# Altium footprint library mypcb.PcbLib: 46 footprints (part 1 of 3)
Each footprint in its own frame and in the unit in brackets; x right, y up, seen from the top. Pads: shape width x height; smd on the part's side, far side on the other; paste and mask are expansions set on the pad; w line width, h text height; cw(c..) or ccw(c..) is an arc to the next point about the centre after c.
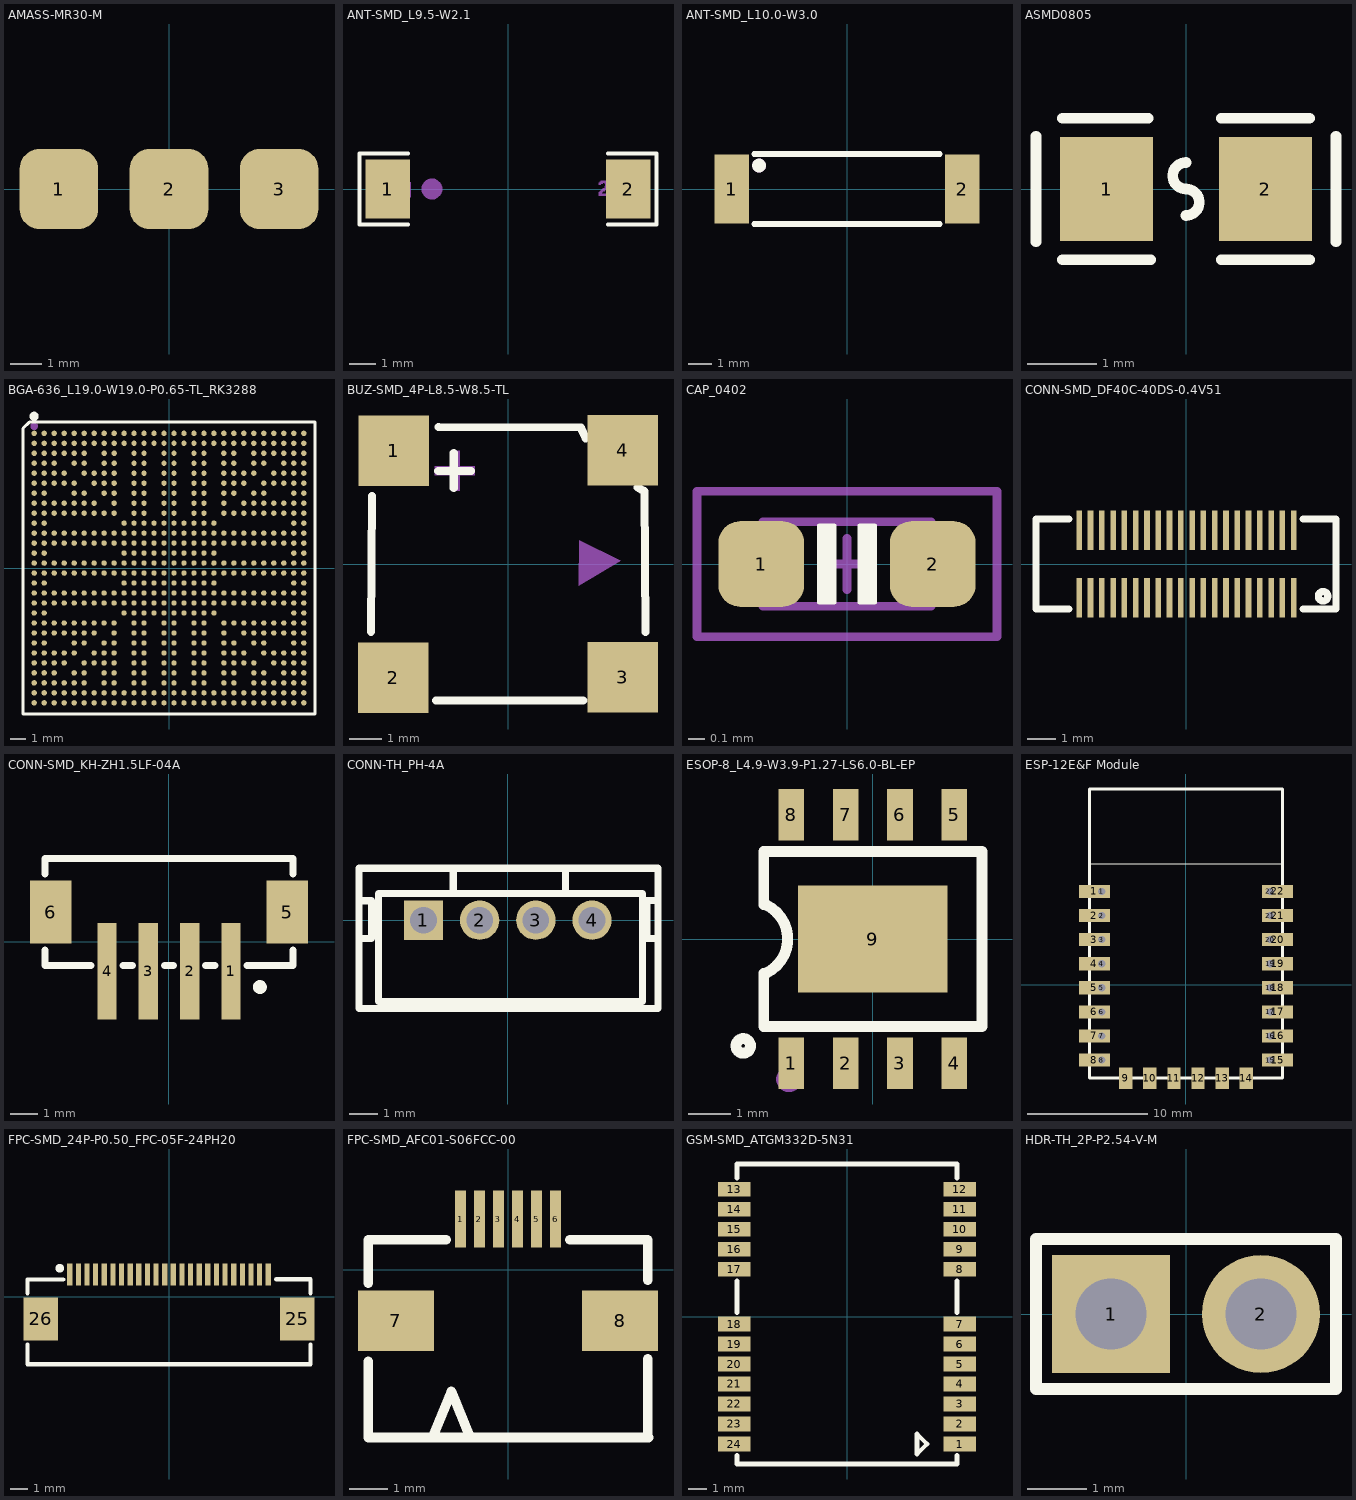
[diagram p0: the footprints below, top view; thin cyan lines are the x and y axes]

## AMASS-MR30-M [mm]
pads (3):
  rrect50% 2.5x2.54 smd: 1(-3.5,0) 2(0,0) 3(3.5,0)
3D body "User Library-Amass MR30-FB.step": height 2.6, standoff -2.6, extent -6.1,-11.842 6.1,0.658

## ANT-SMD_L9.5-W2.1 [mm] "陶瓷天线pcb"
pads (2):
  rect 1.71x2.268 smd: 1(-4.63,0) 2(4.63,0)
Top Overlay:
  lines w0.152: -3.851,-1.363 -5.714,-1.363 -5.714,1.363 -3.851,1.363 ; 3.851,-1.363 5.714,-1.363 5.714,1.363 3.851,1.363
Top Paste:
  region: -3.775,-1.034 -3.775,-0.486 -3.875,-0.386 -4.256,-0.386 -4.356,-0.286 -4.356,0.286 -4.256,0.386 -3.875,0.386 -3.775,0.486 -3.775,1.034 -3.875,1.134 -5.385,1.134 -5.485,1.034 -5.485,-1.034 -5.385,-1.134 -3.875,-1.134
  region: 3.775,-1.034 3.775,-0.486 3.875,-0.386 4.256,-0.386 4.356,-0.286 4.356,0.286 4.256,0.386 3.875,0.386 3.775,0.486 3.775,1.034 3.875,1.134 5.385,1.134 5.485,1.034 5.485,-1.034 5.385,-1.134 3.875,-1.134
Mechanical 15:
  circle w0.4: c-2.921,0 r0.2
  region: 3.492,-0.117 3.528,-0.117 3.528,-0.261 3.492,-0.261
  region: 3.492,0.243 3.528,0.243 3.528,0.171 3.492,0.171
  region: 3.528,-0.081 3.564,-0.081 3.564,-0.261 3.528,-0.261
  region: 3.528,0.279 3.564,0.279 3.564,0.171 3.528,0.171
  region: 3.564,-0.045 3.6,-0.045 3.6,-0.261 3.564,-0.261
  region: 3.564,0.315 3.6,0.315 3.6,0.207 3.564,0.207
  region: 3.6,-0.189 3.636,-0.189 3.636,-0.261 3.6,-0.261
  region: 3.6,-0.009 3.636,-0.009 3.636,-0.117 3.6,-0.117
  region: 3.6,0.315 3.636,0.315 3.636,0.207 3.6,0.207
  region: 3.636,-0.189 3.672,-0.189 3.672,-0.261 3.636,-0.261
  region: 3.636,0.027 3.672,0.027 3.672,-0.081 3.636,-0.081
  region: 3.636,0.315 3.672,0.315 3.672,0.243 3.636,0.243
  region: 3.672,-0.189 3.708,-0.189 3.708,-0.261 3.672,-0.261
  region: 3.672,0.027 3.708,0.027 3.708,-0.081 3.672,-0.081
  region: 3.672,0.315 3.708,0.315 3.708,0.243 3.672,0.243
  region: 3.708,-0.189 3.744,-0.189 3.744,-0.261 3.708,-0.261
  region: 3.708,0.099 3.744,0.099 3.744,-0.045 3.708,-0.045
  region: 3.708,0.315 3.744,0.315 3.744,0.207 3.708,0.207
  region: 3.744,-0.189 3.78,-0.189 3.78,-0.261 3.744,-0.261
  region: 3.744,0.315 3.78,0.315 3.78,-0.009 3.744,-0.009
  region: 3.78,-0.189 3.816,-0.189 3.816,-0.261 3.78,-0.261
  region: 3.78,0.279 3.816,0.279 3.816,-0.009 3.78,-0.009
  region: 3.816,-0.189 3.852,-0.189 3.852,-0.261 3.816,-0.261
  region: 3.816,0.279 3.852,0.279 3.852,0.063 3.816,0.063
  region: 3.852,-0.189 3.888,-0.189 3.888,-0.261 3.852,-0.261
  region: -4.034,0.158 -3.998,0.158 -3.998,0.086 -4.034,0.086
  region: -3.998,0.158 -3.962,0.158 -3.962,0.086 -3.998,0.086
  region: -3.962,0.194 -3.926,0.194 -3.926,0.086 -3.962,0.086
  region: -3.926,0.23 -3.89,0.23 -3.89,0.122 -3.926,0.122
  region: -3.89,0.23 -3.854,0.23 -3.854,-0.31 -3.89,-0.31
  region: -3.854,0.266 -3.818,0.266 -3.818,-0.31 -3.854,-0.31
  region: -3.818,0.266 -3.782,0.266 -3.782,-0.31 -3.818,-0.31
  region: -3.782,0.266 -3.746,0.266 -3.746,-0.31 -3.782,-0.31
3D body "AN9520.STEP": height 0, standoff -1.05, extent -4.75,-1.05 4.75,1.05

## ANT-SMD_L10.0-W3.0 [mm]
pads (2):
  rect 1.5x3 smd: 1(-5,0) 2(5,0)
Top Overlay:
  circle w0.3: c-3.81,1.016 r0.15
  lines w0.254: -4.021,-1.524 4.02,-1.524 ; -4.02,1.524 4.021,1.524
Mechanical 15:
  circle w0.3: c-3.81,1.016 r0.15
3D body "User Library-GPS1003.STEP": height 1.48, standoff -0.01, extent -4.746,-1.524 5.254,1.476

## ASMD0805 [mm]
pads (2):
  rect 1.335x1.5 smd: 1(-1.142,0) 2(1.142,0)
Top Overlay:
  lines w0.152: -2.159,-0.762 -2.159,0.762 ; -1.778,-1.016 -0.508,-1.016 ; -1.778,1.016 -0.545,1.016 ; 0,-0.381 ccw(c0,-0.191) 0,0 cw(c0,0.191) 0,0.381 ; 0.508,-1.016 1.778,-1.016 ; 0.508,1.016 1.778,1.016 ; 2.159,-0.762 2.159,0.762
Top Paste:
  region: 0.475,-0.62 0.475,-0.2 0.92,-0.2 0.92,0.25 0.48,0.25 0.475,0.66 0.525,0.71 1.675,0.71 1.725,0.66 1.725,-0.62 1.675,-0.67 0.525,-0.67
3D body "3D_ASMD0805-050 v1.step": height 0.83, standoff 0.03, extent -1.028,-0.687 1.071,0.713

## BGA-636_L19.0-W19.0-P0.65-TL_RK3288 [mm]
pads (636):
  round 0.35 smd: A1(-8.775,8.775) A2(-8.125,8.775) A3(-7.475,8.775) A4(-6.825,8.775) A5(-6.175,8.775) A6(-5.525,8.775) A7(-4.875,8.775) A8(-4.225,8.775) A9(-3.575,8.775) A10(-2.925,8.775) A11(-2.275,8.775) A12(-1.625,8.775) A13(-0.975,8.775) A14(-0.325,8.775) A15(0.325,8.775) A16(0.975,8.775) A17(1.625,8.775) A18(2.275,8.775) A19(2.925,8.775) A20(3.575,8.775) A21(4.225,8.775) A22(4.875,8.775) A23(5.525,8.775) A24(6.175,8.775) A25(6.825,8.775) A26(7.475,8.775) A27(8.125,8.775) A28(8.775,8.775) AA1(-8.775,-4.225) AA2(-8.125,-4.225) AA3(-7.475,-4.225) AA4(-6.825,-4.225) AA5(-6.175,-4.225) AA6(-5.525,-4.225) AA7(-4.875,-4.225) AA9(-3.575,-4.225) AA11(-2.275,-4.225) AA12(-1.625,-4.225) AA14(-0.325,-4.225) AA15(0.325,-4.225) AA17(1.625,-4.225) AA18(2.275,-4.225) AA20(3.575,-4.225) AA22(4.875,-4.225) AA23(5.525,-4.225) AA24(6.175,-4.225) AA25(6.825,-4.225) AA26(7.475,-4.225) AA27(8.125,-4.225) AA28(8.775,-4.225) AB1(-8.775,-4.875) AB2(-8.125,-4.875) AB5(-6.175,-4.875) AB6(-5.525,-4.875) AB8(-4.225,-4.875) AB9(-3.575,-4.875) AB11(-2.275,-4.875) AB12(-1.625,-4.875) AB14(-0.325,-4.875) AB15(0.325,-4.875) AB17(1.625,-4.875) AB18(2.275,-4.875) AB20(3.575,-4.875) AB21(4.225,-4.875) AB23(5.525,-4.875) AB24(6.175,-4.875) AB27(8.125,-4.875) AB28(8.775,-4.875) AC1(-8.775,-5.525) AC2(-8.125,-5.525) AC3(-7.475,-5.525) AC4(-6.825,-5.525) AC5(-6.175,-5.525) AC7(-4.875,-5.525) AC8(-4.225,-5.525) AC9(-3.575,-5.525) AC11(-2.275,-5.525) AC12(-1.625,-5.525) AC14(-0.325,-5.525) AC15(0.325,-5.525) AC17(1.625,-5.525) AC18(2.275,-5.525) AC20(3.575,-5.525) AC21(4.225,-5.525) AC22(4.875,-5.525) AC24(6.175,-5.525) AC25(6.825,-5.525) AC26(7.475,-5.525) AC27(8.125,-5.525) AC28(8.775,-5.525) AD1(-8.775,-6.175) AD2(-8.125,-6.175) AD3(-7.475,-6.175) AD4(-6.825,-6.175) AD6(-5.525,-6.175) AD7(-4.875,-6.175) AD8(-4.225,-6.175) AD9(-3.575,-6.175) AD11(-2.275,-6.175) AD12(-1.625,-6.175) AD14(-0.325,-6.175) AD15(0.325,-6.175) AD17(1.625,-6.175) AD18(2.275,-6.175) AD20(3.575,-6.175) AD21(4.225,-6.175) AD22(4.875,-6.175) AD23(5.525,-6.175) AD25(6.825,-6.175) AD26(7.475,-6.175) AD27(8.125,-6.175) AD28(8.775,-6.175) AE1(-8.775,-6.825) AE2(-8.125,-6.825) AE3(-7.475,-6.825) AE5(-6.175,-6.825) AE6(-5.525,-6.825) AE8(-4.225,-6.825) AE9(-3.575,-6.825) AE11(-2.275,-6.825) AE12(-1.625,-6.825) AE14(-0.325,-6.825) AE15(0.325,-6.825) AE17(1.625,-6.825) AE18(2.275,-6.825) AE20(3.575,-6.825) AE21(4.225,-6.825) AE23(5.525,-6.825) AE24(6.175,-6.825) AE26(7.475,-6.825) AE27(8.125,-6.825) AE28(8.775,-6.825) AF1(-8.775,-7.475) AF2(-8.125,-7.475) AF3(-7.475,-7.475) AF4(-6.825,-7.475) AF5(-6.175,-7.475) AF6(-5.525,-7.475) AF8(-4.225,-7.475) AF9(-3.575,-7.475) AF11(-2.275,-7.475) AF12(-1.625,-7.475) AF14(-0.325,-7.475) AF15(0.325,-7.475) AF17(1.625,-7.475) AF18(2.275,-7.475) AF20(3.575,-7.475) AF21(4.225,-7.475) AF23(5.525,-7.475) AF24(6.175,-7.475) AF25(6.825,-7.475) AF26(7.475,-7.475) AF27(8.125,-7.475) AF28(8.775,-7.475) AG1(-8.775,-8.125) AG2(-8.125,-8.125) AG3(-7.475,-8.125) AG4(-6.825,-8.125) AG5(-6.175,-8.125) AG6(-5.525,-8.125) AG7(-4.875,-8.125) AG8(-4.225,-8.125) AG9(-3.575,-8.125) AG10(-2.925,-8.125) AG11(-2.275,-8.125) AG12(-1.625,-8.125) AG13(-0.975,-8.125) AG14(-0.325,-8.125) AG15(0.325,-8.125) AG16(0.975,-8.125) AG17(1.625,-8.125) AG18(2.275,-8.125) AG19(2.925,-8.125) AG20(3.575,-8.125) AG21(4.225,-8.125) AG22(4.875,-8.125) AG23(5.525,-8.125) AG24(6.175,-8.125) AG25(6.825,-8.125) AG26(7.475,-8.125) AG27(8.125,-8.125) AG28(8.775,-8.125) AH1(-8.775,-8.775) AH2(-8.125,-8.775) AH3(-7.475,-8.775) AH4(-6.825,-8.775) AH5(-6.175,-8.775) AH6(-5.525,-8.775) AH7(-4.875,-8.775) AH8(-4.225,-8.775) AH9(-3.575,-8.775) AH10(-2.925,-8.775) AH11(-2.275,-8.775) AH12(-1.625,-8.775) AH13(-0.975,-8.775) AH14(-0.325,-8.775) AH15(0.325,-8.775) AH16(0.975,-8.775) AH17(1.625,-8.775) AH18(2.275,-8.775) AH19(2.925,-8.775) AH20(3.575,-8.775) AH21(4.225,-8.775) AH22(4.875,-8.775) AH23(5.525,-8.775) AH24(6.175,-8.775) AH25(6.825,-8.775) AH26(7.475,-8.775) AH27(8.125,-8.775) AH28(8.775,-8.775) B1(-8.775,8.125) B2(-8.125,8.125) B3(-7.475,8.125) B4(-6.825,8.125) B5(-6.175,8.125) B6(-5.525,8.125) B7(-4.875,8.125) B8(-4.225,8.125) B9(-3.575,8.125) B10(-2.925,8.125) B11(-2.275,8.125) B12(-1.625,8.125) B13(-0.975,8.125) B14(-0.325,8.125) B15(0.325,8.125) B16(0.975,8.125) B17(1.625,8.125) B18(2.275,8.125) B19(2.925,8.125) B20(3.575,8.125) B21(4.225,8.125) B22(4.875,8.125) B23(5.525,8.125) B24(6.175,8.125) B25(6.825,8.125) B26(7.475,8.125) B27(8.125,8.125) B28(8.775,8.125) C1(-8.775,7.475) C2(-8.125,7.475) C3(-7.475,7.475) C4(-6.825,7.475) C5(-6.175,7.475) C6(-5.525,7.475) C8(-4.225,7.475) C9(-3.575,7.475) C11(-2.275,7.475) C12(-1.625,7.475) C14(-0.325,7.475) C15(0.325,7.475) C17(1.625,7.475) C18(2.275,7.475) C20(3.575,7.475) C21(4.225,7.475) C23(5.525,7.475) C24(6.175,7.475) C25(6.825,7.475) C26(7.475,7.475) C27(8.125,7.475) C28(8.775,7.475) D1(-8.775,6.825) D2(-8.125,6.825) D3(-7.475,6.825) D5(-6.175,6.825) D6(-5.525,6.825) D8(-4.225,6.825) D9(-3.575,6.825) D11(-2.275,6.825) D12(-1.625,6.825) D14(-0.325,6.825) D15(0.325,6.825) D17(1.625,6.825) D18(2.275,6.825) D20(3.575,6.825) D21(4.225,6.825) D23(5.525,6.825) D24(6.175,6.825) D26(7.475,6.825) D27(8.125,6.825) D28(8.775,6.825) E1(-8.775,6.175) E2(-8.125,6.175) E3(-7.475,6.175) E4(-6.825,6.175) E6(-5.525,6.175) E7(-4.875,6.175) E8(-4.225,6.175) E9(-3.575,6.175) E11(-2.275,6.175) E12(-1.625,6.175) E14(-0.325,6.175) E15(0.325,6.175) E17(1.625,6.175) E18(2.275,6.175) E20(3.575,6.175) E21(4.225,6.175) E22(4.875,6.175) E23(5.525,6.175) E25(6.825,6.175) E26(7.475,6.175) E27(8.125,6.175) E28(8.775,6.175) F1(-8.775,5.525) F2(-8.125,5.525) F3(-7.475,5.525) F4(-6.825,5.525) F5(-6.175,5.525) F7(-4.875,5.525) F8(-4.225,5.525) F9(-3.575,5.525) F11(-2.275,5.525) F12(-1.625,5.525) F14(-0.325,5.525) F15(0.325,5.525) F17(1.625,5.525) F18(2.275,5.525) F20(3.575,5.525) F21(4.225,5.525) F22(4.875,5.525) F24(6.175,5.525) F25(6.825,5.525) F26(7.475,5.525) F27(8.125,5.525) F28(8.775,5.525) G1(-8.775,4.875) G2(-8.125,4.875) G5(-6.175,4.875) G6(-5.525,4.875) G8(-4.225,4.875) G9(-3.575,4.875) G11(-2.275,4.875) G12(-1.625,4.875) G14(-0.325,4.875) G15(0.325,4.875) G17(1.625,4.875) G18(2.275,4.875) G20(3.575,4.875) G21(4.225,4.875) G23(5.525,4.875) G24(6.175,4.875) G27(8.125,4.875) G28(8.775,4.875) H1(-8.775,4.225) H2(-8.125,4.225) H3(-7.475,4.225) H4(-6.825,4.225) H5(-6.175,4.225) H6(-5.525,4.225) H7(-4.875,4.225) H9(-3.575,4.225) H11(-2.275,4.225) H12(-1.625,4.225) H14(-0.325,4.225) H15(0.325,4.225) H17(1.625,4.225) H18(2.275,4.225) H20(3.575,4.225) H22(4.875,4.225) H23(5.525,4.225) H24(6.175,4.225) H25(6.825,4.225) H26(7.475,4.225) H27(8.125,4.225) H28(8.775,4.225) J1(-8.775,3.575) J2(-8.125,3.575) J3(-7.475,3.575) J4(-6.825,3.575) J5(-6.175,3.575) J6(-5.525,3.575) J7(-4.875,3.575) J8(-4.225,3.575) J9(-3.575,3.575) J11(-2.275,3.575) J12(-1.625,3.575) J14(-0.325,3.575) J15(0.325,3.575) J17(1.625,3.575) J18(2.275,3.575) J20(3.575,3.575) J21(4.225,3.575) J22(4.875,3.575) J23(5.525,3.575) J24(6.175,3.575) J25(6.825,3.575) J26(7.475,3.575) J27(8.125,3.575) J28(8.775,3.575) K1(-8.775,2.925) K2(-8.125,2.925) K10(-2.925,2.925) K11(-2.275,2.925) K12(-1.625,2.925) K13(-0.975,2.925) K14(-0.325,2.925) K15(0.325,2.925) K16(0.975,2.925) K17(1.625,2.925) K18(2.275,2.925) K19(2.925,2.925) K27(8.125,2.925) K28(8.775,2.925) L1(-8.775,2.275) L2(-8.125,2.275) L3(-7.475,2.275) L4(-6.825,2.275) L5(-6.175,2.275) L6(-5.525,2.275) L7(-4.875,2.275) L8(-4.225,2.275) L9(-3.575,2.275) L10(-2.925,2.275) L11(-2.275,2.275) L12(-1.625,2.275) L13(-0.975,2.275) L14(-0.325,2.275) L15(0.325,2.275) L16(0.975,2.275) L17(1.625,2.275) L18(2.275,2.275) L19(2.925,2.275) L20(3.575,2.275) L21(4.225,2.275) L22(4.875,2.275) L23(5.525,2.275) L24(6.175,2.275) L25(6.825,2.275) L26(7.475,2.275) L27(8.125,2.275) L28(8.775,2.275) M1(-8.775,1.625) M2(-8.125,1.625) M3(-7.475,1.625) M4(-6.825,1.625) M5(-6.175,1.625) M6(-5.525,1.625) M7(-4.875,1.625) M8(-4.225,1.625) M9(-3.575,1.625) M10(-2.925,1.625) M11(-2.275,1.625) M12(-1.625,1.625) M13(-0.975,1.625) M14(-0.325,1.625) M15(0.325,1.625) M16(0.975,1.625) M17(1.625,1.625) M18(2.275,1.625) M19(2.925,1.625) M20(3.575,1.625) M21(4.225,1.625) M22(4.875,1.625) M23(5.525,1.625) M24(6.175,1.625) M25(6.825,1.625) M26(7.475,1.625) M27(8.125,1.625) M28(8.775,1.625) N1(-8.775,0.975) N2(-8.125,0.975) N10(-2.925,0.975) N11(-2.275,0.975) N12(-1.625,0.975) N13(-0.975,0.975) N14(-0.325,0.975) N15(0.325,0.975) N16(0.975,0.975) N17(1.625,0.975) N18(2.275,0.975) N19(2.925,0.975) N27(8.125,0.975) N28(8.775,0.975) P1(-8.775,0.325) P2(-8.125,0.325) P3(-7.475,0.325) P4(-6.825,0.325) P5(-6.175,0.325) P6(-5.525,0.325) P7(-4.875,0.325) P8(-4.225,0.325) P9(-3.575,0.325) P10(-2.925,0.325) P11(-2.275,0.325) P12(-1.625,0.325) P13(-0.975,0.325) P14(-0.325,0.325) P15(0.325,0.325) P16(0.975,0.325) P17(1.625,0.325) P18(2.275,0.325) P19(2.925,0.325) P20(3.575,0.325) P21(4.225,0.325) P22(4.875,0.325) P23(5.525,0.325) P24(6.175,0.325) P25(6.825,0.325) P26(7.475,0.325) P27(8.125,0.325) P28(8.775,0.325) R1(-8.775,-0.325) R2(-8.125,-0.325) R3(-7.475,-0.325) R4(-6.825,-0.325) R5(-6.175,-0.325) R6(-5.525,-0.325) R7(-4.875,-0.325) R8(-4.225,-0.325) R9(-3.575,-0.325) R10(-2.925,-0.325) R11(-2.275,-0.325) R12(-1.625,-0.325) R13(-0.975,-0.325) R14(-0.325,-0.325) R15(0.325,-0.325) R16(0.975,-0.325) R17(1.625,-0.325) R18(2.275,-0.325) R19(2.925,-0.325) R20(3.575,-0.325) R21(4.225,-0.325) R22(4.875,-0.325) R23(5.525,-0.325) R24(6.175,-0.325) R25(6.825,-0.325) R26(7.475,-0.325) R27(8.125,-0.325) R28(8.775,-0.325) T1(-8.775,-0.975) T2(-8.125,-0.975) T10(-2.925,-0.975) T11(-2.275,-0.975) T12(-1.625,-0.975) T13(-0.975,-0.975) T14(-0.325,-0.975) T15(0.325,-0.975) T16(0.975,-0.975) T17(1.625,-0.975) T18(2.275,-0.975) T19(2.925,-0.975) T27(8.125,-0.975) T28(8.775,-0.975) U1(-8.775,-1.625) U2(-8.125,-1.625) U3(-7.475,-1.625) U4(-6.825,-1.625) U5(-6.175,-1.625) U6(-5.525,-1.625) U7(-4.875,-1.625) U8(-4.225,-1.625) U9(-3.575,-1.625) U10(-2.925,-1.625) U11(-2.275,-1.625) U12(-1.625,-1.625) U13(-0.975,-1.625) U14(-0.325,-1.625) U15(0.325,-1.625) U16(0.975,-1.625) U17(1.625,-1.625) U18(2.275,-1.625) U19(2.925,-1.625) U20(3.575,-1.625) U21(4.225,-1.625) U22(4.875,-1.625) U23(5.525,-1.625) U24(6.175,-1.625) U25(6.825,-1.625) U26(7.475,-1.625) U27(8.125,-1.625) U28(8.775,-1.625) V1(-8.775,-2.275) V2(-8.125,-2.275) V3(-7.475,-2.275) V4(-6.825,-2.275) V5(-6.175,-2.275) V6(-5.525,-2.275) V7(-4.875,-2.275) V8(-4.225,-2.275) V9(-3.575,-2.275) V10(-2.925,-2.275) V11(-2.275,-2.275) V12(-1.625,-2.275) V13(-0.975,-2.275) V14(-0.325,-2.275) V15(0.325,-2.275) V16(0.975,-2.275) V17(1.625,-2.275) V18(2.275,-2.275) V19(2.925,-2.275) V20(3.575,-2.275) V21(4.225,-2.275) V22(4.875,-2.275) V23(5.525,-2.275) V24(6.175,-2.275) V25(6.825,-2.275) V26(7.475,-2.275) V27(8.125,-2.275) V28(8.775,-2.275) W1(-8.775,-2.925) W2(-8.125,-2.925) W10(-2.925,-2.925) W11(-2.275,-2.925) W12(-1.625,-2.925) W13(-0.975,-2.925) W14(-0.325,-2.925) W15(0.325,-2.925) W16(0.975,-2.925) W17(1.625,-2.925) W18(2.275,-2.925) W19(2.925,-2.925) W27(8.125,-2.925) W28(8.775,-2.925) Y1(-8.775,-3.575) Y2(-8.125,-3.575) Y3(-7.475,-3.575) Y4(-6.825,-3.575) Y5(-6.175,-3.575) Y6(-5.525,-3.575) Y7(-4.875,-3.575) Y8(-4.225,-3.575) Y9(-3.575,-3.575) Y11(-2.275,-3.575) Y12(-1.625,-3.575) Y14(-0.325,-3.575) Y15(0.325,-3.575) Y17(1.625,-3.575) Y18(2.275,-3.575) Y20(3.575,-3.575) Y21(4.225,-3.575) Y22(4.875,-3.575) Y23(5.525,-3.575) Y24(6.175,-3.575) Y25(6.825,-3.575) Y26(7.475,-3.575) Y27(8.125,-3.575) Y28(8.775,-3.575)
Top Overlay:
  circle w0.3: c-8.78,9.88 r0.15
  lines w0.2: -9.5,-9.5 -9.5,9.095 -9.095,9.5 9.5,9.5 9.5,-9.5 -9.5,-9.5
Mechanical 15:
  circle w0.25: c-8.78,9.24 r0.125

## BUZ-SMD_4P-L8.5-W8.5-TL [mm] "有源喇叭"
pads (4):
  rect 2.2x2.2 smd: 1(-3.568,3.541) 2(-3.581,-3.557) 3(3.58,-3.528) 4(3.581,3.557)
Top Overlay:
  lines w0.254: -4.274,-2.116 -4.249,2.126 ; -2.242,-4.256 2.349,-4.256 ; -2.175,2.907 -1.159,2.907 ; -2.166,4.274 2.273,4.261 2.423,3.923 ; -1.692,2.373 -1.692,3.465 ; 4.049,2.388 4.255,2.272 4.291,-2.123
Mechanical 15:
  region: 3.525,0.097 2.217,0.737 2.208,-0.683
  region: -1.785,2.289 -1.785,3.54 -1.512,3.54 -1.512,2.289
  region: -2.285,3.045 -1.034,3.045 -1.034,2.773 -2.285,2.773 -2.285,2.772

## CAP_0402 [mil]
height 21.65
pads (2):
  rrect50% 20x20 smd: 1(-20,0) 2(20,0)
Top Overlay:
  region: -6.5,9 -3,9 -3,-9 -6.5,-9
  region: 6.5,-9 3,-9 3,9 6.5,9
  lines w1: -6.5,-9 -3,-9 -3,9 -6.5,9 -6.5,-9 ; 3,-9 3,9 6.5,9 6.5,-9 3,-9
Mechanical 13:
  lines w2: -6,0 6,0 ; 0,-6 0,6 ; -19.69,-9.84 -19.69,9.84 19.68,9.84 19.68,-9.84 -19.69,-9.84
Mechanical 14:
  lines w2: -35,-17 -35,17 35,17 35,-17 -35,-17
3D body "CAPC1005X05L.step": height 19.68, standoff 0, extent -19.68,-9.84 19.69,9.85

## CONN-SMD_DF40C-40DS-0.4V51 [mm]
pads (40):
  rect 0.2x1.4 smd: 1(3.8,-1.19) 2(3.8,1.19) 3(3.4,-1.19) 4(3.4,1.19) 5(3,-1.19) 6(3,1.19) 7(2.6,-1.19) 8(2.6,1.19) 9(2.2,-1.19) 10(2.2,1.19) 11(1.8,-1.19) 12(1.8,1.19) 13(1.4,-1.19) 14(1.4,1.19) 15(1,-1.19) 16(1,1.19) 17(0.6,-1.19) 18(0.6,1.19) 19(0.2,-1.19) 20(0.2,1.19) 21(-0.2,-1.19) 22(-0.2,1.19) 23(-0.6,-1.19) 24(-0.6,1.19) 25(-1,-1.19) 26(-1,1.19) 27(-1.4,-1.19) 28(-1.4,1.19) 29(-1.8,-1.19) 30(-1.8,1.19) 31(-2.2,-1.19) 32(-2.2,1.19) 33(-2.6,-1.19) 34(-2.6,1.19) 35(-3,-1.19) 36(-3,1.19) 37(-3.4,-1.19) 38(-3.4,1.19) 39(-3.8,-1.19) 40(-3.8,1.19)
Top Overlay:
  circle w0.254: c4.842,-1.143 r0.168
  lines w0.254: -4.165,-1.6 -5.334,-1.6 -5.334,0 -5.334,1.6 -4.165,1.6 ; 4.131,-1.6 5.3,-1.6 5.3,0 5.3,1.6 4.131,1.6

## CONN-SMD_KH-ZH1.5LF-04A [mm]
pads (6):
  rect 0.7x3.5 smd: 1(2.25,-1.075) 2(0.75,-1.075) 3(-0.75,-1.075) 4(-2.25,-1.075)
  rect 1.5x2.3 smd: 5(4.3,1.075) 6(-4.3,1.075)
Top Overlay:
  circle w0.254: c3.302,-1.651 r0.127
  lines w0.254: -4.5,2.456 -4.5,3.013 4.5,3.013 4.5,2.456 ; -4.499,-0.306 -4.499,-0.875 -2.831,-0.875 ; -1.669,-0.875 -1.331,-0.875 ; -0.169,-0.875 0.169,-0.875 ; 1.331,-0.875 1.669,-0.875 ; 2.831,-0.875 4.5,-0.875 4.5,-0.306

## CONN-TH_PH-4A [mm]
pads (4):
  rect 1.4x1.4 hole 0.95 mask+0.051: 1(-3,0)
  round 1.4 hole 0.95 mask+0.051: 2(-1.001,0) 3(1.001,0) 4(3,0)
Top Overlay:
  lines w0.254: -5.301,-0.65 -4.849,-0.65 -4.849,0.691 -5.301,0.691 ; -5.301,1.699 -5.301,1.849 5.349,1.849 5.349,-3.15 -5.301,-3.15 -5.301,1.801 ; -1.938,0.95 -1.938,1.849 ; 2.055,0.95 2.055,1.849 ; 4.801,0.65 4.801,0.95 -4.6,0.95 -4.6,-2.901 4.801,-2.901 4.801,0.851 ; 5.349,-0.65 4.95,-0.65 4.95,0.699 5.349,0.699
Mechanical 15:
  region: 3.376,0 3.376,0.075 3.318,0.213 3.213,0.319 3.075,0.376 2.925,0.376 2.787,0.319 2.681,0.213 2.624,0.075 2.624,0 2.624,-0.075 2.681,-0.213 2.787,-0.319 2.925,-0.376 3.075,-0.376 3.213,-0.319 3.318,-0.213 3.376,-0.075 3.376,0
  region: 1.377,0 1.377,0.075 1.319,0.213 1.214,0.319 1.076,0.376 0.926,0.376 0.788,0.319 0.682,0.213 0.625,0.075 0.625,0 0.625,-0.075 0.682,-0.213 0.788,-0.319 0.926,-0.376 1.076,-0.376 1.214,-0.319 1.319,-0.213 1.377,-0.075 1.377,0
  region: -0.625,0 -0.625,0.075 -0.682,0.213 -0.788,0.319 -0.926,0.376 -1.076,0.376 -1.214,0.319 -1.319,0.213 -1.377,0.075 -1.377,0 -1.377,-0.075 -1.319,-0.213 -1.214,-0.319 -1.076,-0.376 -0.926,-0.376 -0.788,-0.319 -0.682,-0.213 -0.625,-0.075 -0.625,0
  region: -2.624,0 -2.624,0.075 -2.681,0.213 -2.787,0.319 -2.925,0.376 -3.075,0.376 -3.213,0.319 -3.318,0.213 -3.376,0.075 -3.376,0 -3.376,-0.075 -3.318,-0.213 -3.213,-0.319 -3.075,-0.376 -2.925,-0.376 -2.787,-0.319 -2.681,-0.213 -2.624,-0.075 -2.624,0
  region: -5.21,-3.127 -5.21,-3.101 -5.245,-3.066 -5.296,-3.066 -5.331,-3.101 -5.331,-3.127 -5.331,-3.152 -5.296,-3.188 -5.245,-3.188 -5.21,-3.152 -5.21,-3.127
  lines w0.051: -5.271,-3.127 -5.271,1.826 5.334,1.826 5.334,-3.127 -5.271,-3.127
3D body "3D_PH4A.step": height 6.03, standoff -2.97, extent -4.849,-2.901 5.049,1.798

## ESOP-8_L4.9-W3.9-P1.27-LS6.0-BL-EP [mm]
pads (9):
  rect 0.6x1.2 smd: 1(-1.905,-2.908) 2(-0.635,-2.908) 3(0.635,-2.908) 4(1.905,-2.908) 5(1.905,2.908) 6(0.635,2.908) 7(-0.635,2.908) 8(-1.905,2.908)
  rect 3.5x2.5 smd: 9(0,0)
Top Overlay:
  circle w0.254: c-3.03,-2.5 r0.17
  lines w0.254: -2.55,-0.8 -2.55,-2.05 2.55,-2.05 2.55,2.05 -2.55,2.05 -2.55,0.8 ; -2.5,-0.8 ccw(c-2.875,0) -2.5,0.8
Mechanical 15:
  circle w0.3: c-1.96,-3.28 r0.15

## ESP-12E&F Module [mm]
pads (38):
  rect 2.6x1.1 smd: 1(-7.6,7.75) 2(-7.6,5.75) 3(-7.6,3.75) 4(-7.6,1.75) 5(-7.6,-0.25) 6(-7.6,-2.25) 7(-7.6,-4.25) 8(-7.6,-6.25) 15(7.6,-6.25) 16(7.6,-4.25) 17(7.6,-2.25) 18(7.6,-0.25) 19(7.6,1.75) 20(7.6,3.75) 21(7.6,5.75) 22(7.6,7.75)
  rect 0.762x1 hole 0.6: 1(-7,7.75) 7(-7,-4.25)
  rect 0.762x1 / inner rect 0.762x1 / far side rect 1x1 hole 0.6: 2(-7,5.75) 3(-7,3.75) 4(-7,1.75) 5(-7,-0.25) 6(-7,-2.25) 8(-7,-6.25) 15(7,-6.25) 16(7,-4.25) 17(7,-2.25) 18(7,-0.25) 19(7,1.75) 20(7,3.75) 21(7,5.75) 22(7,7.75)
  rect 1.1x1.8 smd: 9(-5,-7.75) 10(-3,-7.75) 11(-1,-7.75) 12(1,-7.75) 13(3,-7.75) 14(5,-7.75)
Top Overlay:
  lines w0.1: -8,10.05 8,10.05
  lines w0.254: -8,-7.75 -8,16.25 8,16.25 8,-7.75 -8,-7.75

## FPC-SMD_24P-P0.50_FPC-05F-24PH20 [mm]
pads (26):
  rect 0.3x1.25 smd: 1(-5.75,1.288) 2(-5.25,1.288) 3(-4.75,1.288) 4(-4.25,1.288) 5(-3.75,1.288) 6(-3.25,1.288) 7(-2.75,1.288) 8(-2.25,1.288) 9(-1.75,1.288) 10(-1.25,1.288) 11(-0.75,1.288) 12(-0.25,1.288) 13(0.25,1.288) 14(0.75,1.288) 15(1.25,1.288) 16(1.75,1.288) 17(2.25,1.288) 18(2.75,1.288) 19(3.25,1.288) 20(3.75,1.288) 21(4.25,1.288) 22(4.75,1.288) 23(5.25,1.288) 24(5.75,1.288)
  rect 2x2.5 smd: 25(7.44,-1.288) 26(-7.44,-1.288)
Top Overlay:
  circle w0.254: c-6.327,1.651 r0.127
  lines w0.254: -8.2,-2.769 -8.2,-3.912 8.2,-3.912 8.2,-2.769 ; -8.2,0.194 -8.2,1 -6.131,1 ; 6.223,1.016 8.2,1.016 8.2,0.194
3D body "FPC24P0.5.stEp": height 1.9, standoff -1.9, extent -8.85,-3.494 8.85,0.656

## FPC-SMD_AFC01-S06FCC-00 [mm]
pads (8):
  rect 0.3x1.5 smd: 1(-1.25,1.34) 2(-0.751,1.34) 3(-0.25,1.34) 4(0.25,1.34) 5(0.75,1.34) 6(1.251,1.34)
  rect 2x1.6 smd: 7(-2.95,-1.34) 8(2.949,-1.34)
Top Overlay:
  lines w0.254: -3.679,-2.406 -3.679,-4.41 3.7,-4.41 ; -3.679,-0.344 -3.679,0.794 -1.632,0.794 ; -1.993,-4.41 -1.493,-3.2 -1.003,-4.4 ; 1.632,0.794 3.68,0.794 3.68,-0.275 ; 3.68,-4.41 3.68,-2.337

## GSM-SMD_ATGM332D-5N31 [mm]
pads (24):
  rect 1.8x0.8 smd: 1(6.2,-7) 2(6.2,-5.9) 3(6.2,-4.8) 4(6.2,-3.7) 5(6.2,-2.6) 6(6.2,-1.5) 7(6.2,-0.4) 8(6.2,2.6) 9(6.2,3.7) 10(6.2,4.8) 11(6.2,5.9) 12(6.2,7) 13(-6.2,7) 14(-6.2,5.9) 15(-6.2,4.8) 16(-6.2,3.7) 17(-6.2,2.6) 18(-6.2,-0.4) 19(-6.2,-1.5) 20(-6.2,-2.6) 21(-6.2,-3.7) 22(-6.2,-4.8) 23(-6.2,-5.9) 24(-6.2,-7)
Top Overlay:
  lines w0.254: -6.05,-7.631 -6.05,-8.1 6.05,-8.1 6.05,-7.631 ; -6.05,0.231 -6.05,1.969 ; -6.05,7.631 -6.05,8.4 6.05,8.4 6.05,7.631 ; 6.05,0.231 6.05,1.969 ; 3.85,-7.55 3.85,-6.45 4.4,-7 3.85,-7.55
3D body "ATGM332D-5N31.STEP": height 2.15, standoff 0, extent -5.973,-7.747 6.227,8.253

## HDR-TH_2P-P2.54-V-M [mm]
pads (2):
  rect 2x2 hole 1.2: 1(-1.27,0)
  round 2 hole 1.2: 2(1.27,0)
Top Overlay:
  lines w0.203: -2.54,-1.27 2.54,-1.27 2.54,1.27 -0.635,1.27 -2.54,1.27 -2.54,-1.27